# Altium integrated library TI Data Converters Analog to Digital Converter.IntLib: 2197 symbols (part 96 of 168)
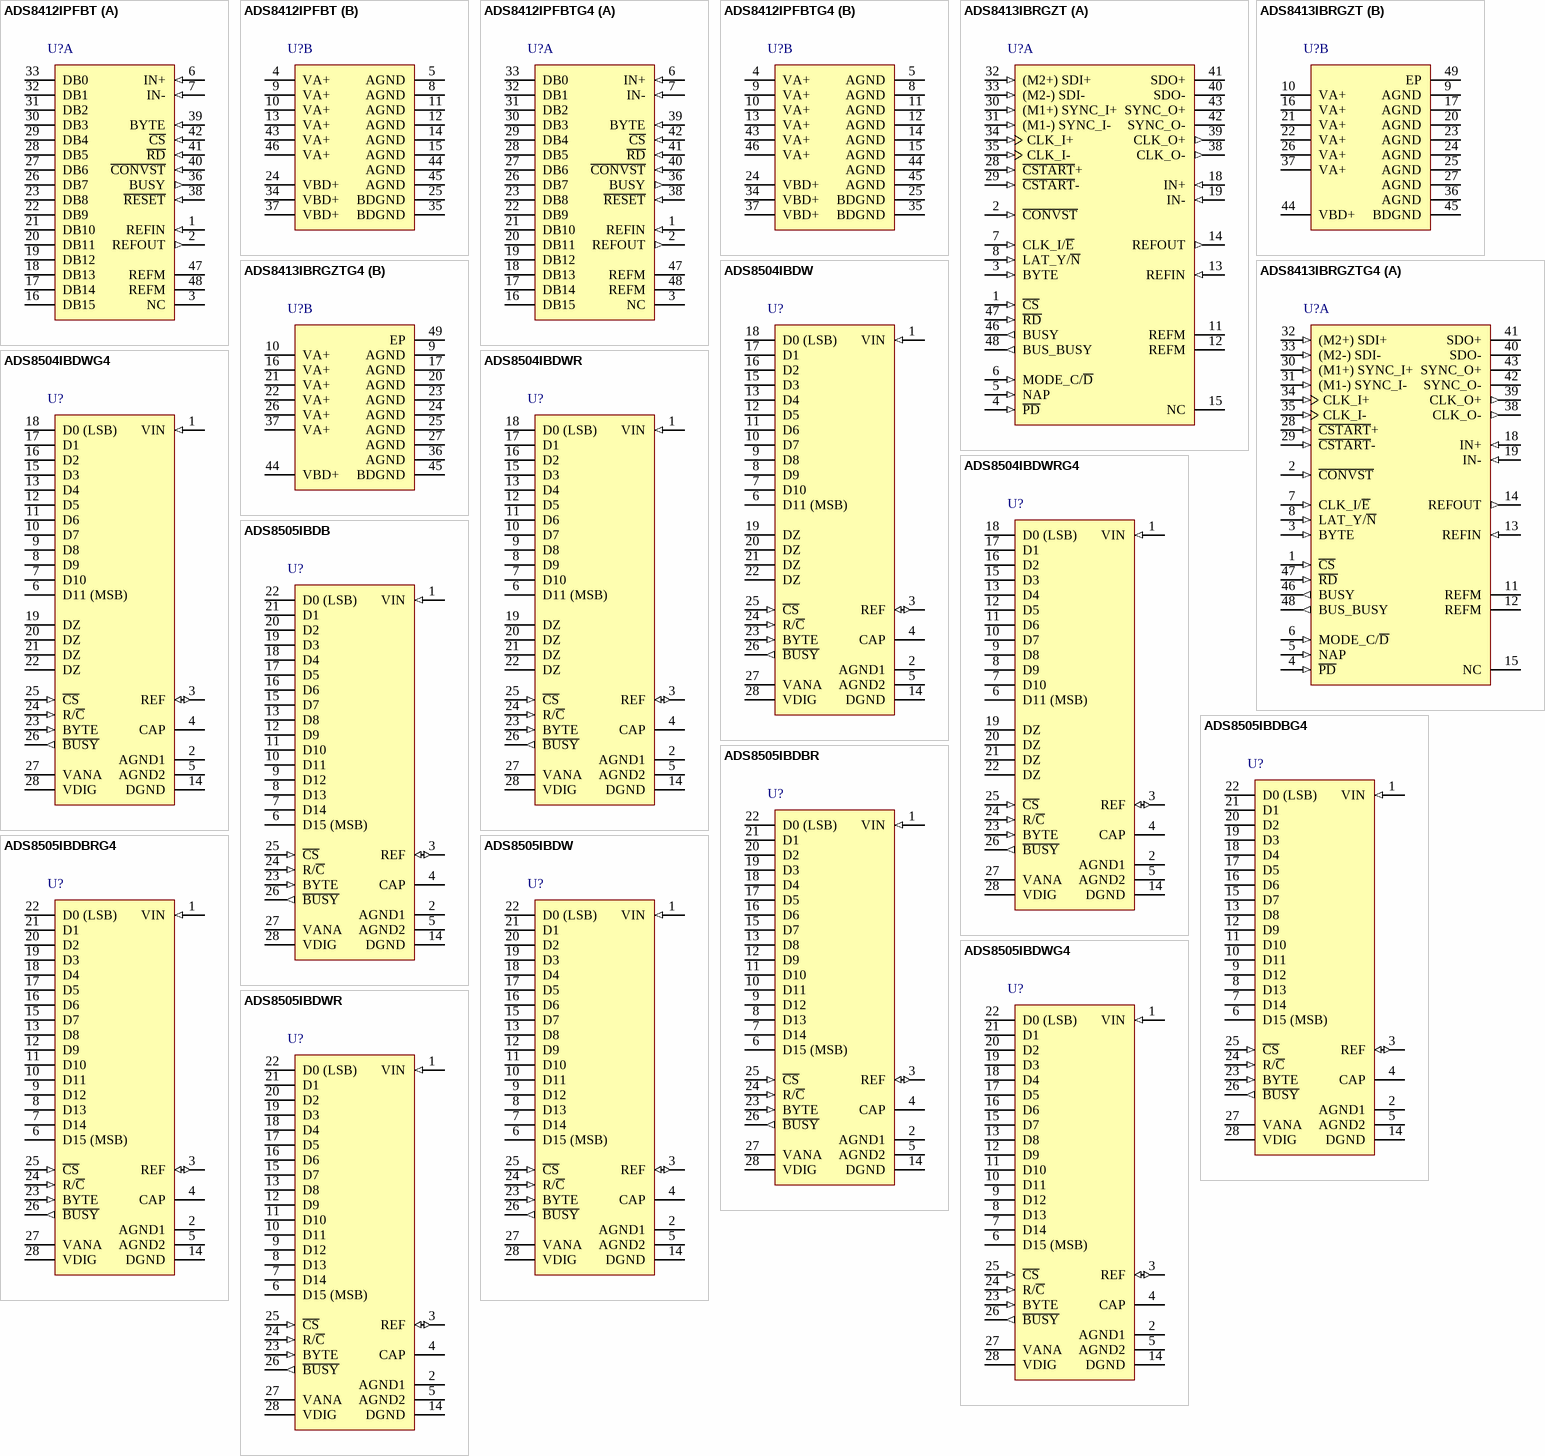
[diagram p221: symbols ADS8412IPFBT to ADS8505IBDWR]

## ADS8413IBRGZTG4
designator U?
16-Bit, Unipolar Differential Input, 2 MSPS Sampling Rate, 4.75 to 5.25 V ADC with LVDS Serial Interface, -40 to 85 degC, 48-pin QFN (RGZ48), Green (RoHS & no Sb/Br); Manufacturer: Texas Instruments; PartNumber: ADS8413IBRGZTG4; # Input Channels: 1; Analog Voltage AV/DD(Max)(V): 5.25; Analog Voltage AV/DD(Min)(V): 4.75; Architecture: SAR; Digital Supply(Min)(V): 2.7; INL(Max)(+/-LSB): 2; Interface: Parallel LVDS; Resolution(Bits): 16; Sample Rate (max)(SPS): 2M; SFDR(dB): 113; SINAD(dB): 92; SubFamily: Precision ADC (<=10MSPS); DatasheetVersion: SLAS490; PackageVersion: 4204101/F, 06/2011; PackageReference: RGZ48-5150X5150TP; PackageDescription: 48-Pin Plastic Flat Pack, Body 7 x 7 mm, Pitch 0.5 mm; Supplier 1: Digi-Key; Supplier Part Number 1: ADS7816U-ND; Supplier 2: Mouser; Supplier Part Number 2: 595-ADS7816U; Digital Supply(Max)(V): 5.25; Eco-Plan: Green (RoHS & no Sb/Br); SNR(dB): 92; Mounting Technology: Surface Mount; Code_JEDEC: MO-220; ComponentLink1Description: Manufacturer URL; ComponentLink1URL: http://www.ti.com/; ComponentLink2Description: Datasheet; ComponentLink2URL: http://www.ti.com/general/docs/lit/getliterature.tsp?genericPartNumber=ADS8413&fileType=pdf; ComponentLink3Description: Package Specification; ComponentLink3URL: http://www.ti.com/lit/ml/mpqf123e/mpqf123e.pdf
footprint TI-RGZ48-5150X5150TP_V (QFN, 48-Leads, Body 7x7mm, Pitch 0.5mm, Thermal Pad 5.15x5.15mm, TI Recommended)
part A pins: 1 ~{CS} (in) "Chip select, active low signal. All of the LVDS o/p except CLK_O are 3-state if this pin is high.", 2 ~{CONVST} (in) "CMOS equivalent of C\S\T\A\R\T\ input. So functionality is the same as the C\S\T\A\R\T\ input. Set C\O\N\V\S\T\ = 0 when the C\S\T\A\R\T\ input is used.", 3 BYTE (in) "Controls the data frame duration. The frame duration is 16 CLKs if BYTE = 0 or 8 CLKs if BYTE = 1.", 4 ~{PD} (in) "Active low input, acts as device power down.", 5 NAP (in) "Selects nap mode while high. Device enters nap state at conversion end and remains so until next acquisition phase begins.", 6 MODE_C/~{D} (in) "Selects cascade (MODE_C/D = 1) or daisy chain mode (MODE_C/D = 0).", 7 CLK_I/~{E} (in) "Selects the source of the I/O clock. CLK_I/E\= 1 selects internally generated clock with 200-MHz typ frequency. CLK_I/E\ = 0 selects CLK_I as the I/O clock.", 8 LAT_Y/~{N} (in) "Controls the data read with latency (LAT_Y/N\= 1) or without latency ((LAT_Y/N\ = 0). It is essential to set LAT_Y/N\= 0 for the first device in daisy chain or cascade.", 11 REFM (power) "Reference ground. Connect to analog ground plane.", 12 REFM (power) "Reference ground. Connect to analog ground plane.", 13 REFIN (in) "Reference (positive) input. Decouple with REFM pin using 0.1 uF bypass capacitor and 1 uF storage capacitor.", 14 REFOUT (out) "Internal reference output. Short to REFIN pin when internal reference is used. Do not connect to REFIN pin when external reference is used. Always decouple with AGND using 0.1 uF bypass capacitor.", 15 NC "No connection pins", 18 IN+ (in) "Noninverting analog input channel", 19 IN- (in) "Inverting analog input channel", 28 ~{CSTART}+ (in) "Device sample and convert control input. Device enters sample phase with rising edge of C\S\T\A\R\T\ and conversion phase starts with falling edge of C\S\T\A\R\T\ (provided other conditions are satisfied). Set C\S\T\A\R\T\ = (See Datasheet)", 29 ~{CSTART}- (in) "Device sample and convert control input. Device enters sample phase with rising edge of C\S\T\A\R\T\ and conversion phase starts with falling edge of C\S\T\A\R\T\ (provided other conditions are satisfied). Set C\S\T\A\R\T\ = (See Datasheet)", 30 (M1+) SYNC_I+ (in), 31 (M1-) SYNC_I- (in), 32 (M2+) SDI+ (in), 33 (M2-) SDI- (in), 34 CLK_I+ (in) "Serial external clock input. Set CLK_I/E\(pin 7) = 0 to select external clock source.", 35 CLK_I- (in) "Serial external clock input. Set CLK_I/E\(pin 7) = 0 to select external clock source.", 38 CLK_O- (out) "Serial clock out. Data is latched out on the rising edge of CLK_O and can be captured on the next falling edge.", 39 CLK_O+ (out) "Serial clock out. Data is latched out on the rising edge of CLK_O and can be captured on the next falling edge.", 40 SDO- (hiz) "Serial data out. Data is latched out on the rising edge of CLK_O with MSB first format.", 41 SDO+ (hiz) "Serial data out. Data is latched out on the rising edge of CLK_O with MSB first format.", 42 SYNC_O- (hiz) "Synchronizes the data frame.", 43 SYNC_O+ (hiz) "Synchronizes the data frame.", 46 BUSY (out) "Active high signal, indicates a conversion is in progress.", 47 ~{RD} (in) "Data read request to the device, also acts as a hand shake signal for daisy chain and cascade operation.", 48 BUS_BUSY (out) "Status output. Indicates that the bus is being used by the device. Connect to RD of the next device for daisy chain or cascade operation."
part B pins: 9 AGND (power) "Analog ground pins. Short to the analog ground plane below the device.", 10 VA+ (power) "Analog power supply and LVDS input buffer power supply.", 16 VA+ (power) "Analog power supply and LVDS input buffer power supply.", 17 AGND (power) "Analog ground pins. Short to the analog ground plane below the device.", 20 AGND (power) "Analog ground pins. Short to the analog ground plane below the device.", 21 VA+ (power) "Analog power supply and LVDS input buffer power supply.", 22 VA+ (power) "Analog power supply and LVDS input buffer power supply.", 23 AGND (power) "Analog ground pins. Short to the analog ground plane below the device.", 24 AGND (power) "Analog ground pins. Short to the analog ground plane below the device.", 25 AGND (power) "Analog ground pins. Short to the analog ground plane below the device.", 26 VA+ (power) "Analog power supply and LVDS input buffer power supply.", 27 AGND (power) "Analog ground pins. Short to the analog ground plane below the device.", 36 AGND (power) "Analog ground pins. Short to the analog ground plane below the device.", 37 VA+ (power) "Analog power supply and LVDS input buffer power supply.", 44 VBD+ (power) "Digital power supply for all CMOS digital inputs and CMOS, LVDS outputs.", 45 BDGND (power) "Digital ground for all digital inputs and outputs. Short to the analog ground plane below the device.", 49 EP

## ADS8504IBDW
designator U?
12-Bit 250 kHz CMOS ADC with Parallel Interface 2.5 V Internal Reference, -40 to 85 degC, 28-pin SOIC (DW28), Green (RoHS & no Sb/Br); Manufacturer: Texas Instruments; PartNumber: ADS8504IBDW; # Input Channels: 1; Analog Voltage AV/DD(Max)(V): 5.25; Analog Voltage AV/DD(Min)(V): 4.75; Architecture: SAR; INL(Max)(+/-LSB): 0.45; Interface: Parallel CMOS; Resolution(Bits): 12; Sample Rate (max)(SPS): 250k; SFDR(dB): 94; SINAD(dB): 73; SubFamily: Precision ADC (<=10MSPS); DatasheetVersion: SLAS434A; PackageVersion: 4040000-6/G, 01/2011; PackageReference: DW28; PackageDescription: 28-Pin Plastic Small Outline, Body 17.90 x 7.50 mm, Pitch 1.27 mm; Supplier 1: Digi-Key; Supplier Part Number 1: ADS7816U/2K5-ND; Supplier 2: Newark; Supplier Part Number 2: 74C7112; Supplier 3: Mouser; Supplier Part Number 3: 595-ADS7816U/2K5; Digital Supply(Max)(V): 5.25; Digital Supply(Min)(V): 4.75; Eco-Plan: Green (RoHS & no Sb/Br); SNR(dB): 73; Mounting Technology: Surface Mount; Code_JEDEC: MS-013; ComponentLink1Description: Manufacturer URL; ComponentLink1URL: http://www.ti.com/; ComponentLink2Description: Datasheet; ComponentLink2URL: http://www.ti.com/general/docs/lit/getliterature.tsp?genericPartNumber=ADS8504&fileType=pdf; ComponentLink3Description: Package Specification; ComponentLink3URL: http://www.ti.com/lit/ml/mpds175a/mpds175a.pdf
footprint TI-DW28_N (SOIC, 28-Leads, Body 17.9x7.5mm, Pitch 1.27mm, IPC Medium Density)
footprint TI-DW28_L (SOIC, 28-Leads, Body 17.9x7.5mm, Pitch 1.27mm, IPC High Density)
footprint TI-DW28_M (SOIC, 28-Leads, Body 17.9x7.5mm, Pitch 1.27mm, IPC Low Density)
pins: 1 VIN (in) "Analog input.", 2 AGND1 (power) "Analog ground. Used internally as ground reference point.", 3 REF (io) "Reference input/output. 2.2-uF tantalum capacitor to ground.", 4 CAP "Reference buffer capacitor. 2.2-uF tantalum capacitor to ground.", 5 AGND2 (power) "Analog ground.", 6 D11 (MSB) (hiz) "Data bit 11. Most significant bit (MSB) of conversion results. Hi-Z state when C\S\ is high, or when R/C\ is low.", 7 D10 (hiz) "Data bit 10. Hi-Z state when C\S\ is high, or when R/C\ is low.", 8 D9 (hiz) "Data bit 9. Hi-Z state when C\S\ is high, or when R/C\ is low.", 9 D8 (hiz) "Data bit 8. Hi-Z state when C\S\ is high, or when R/C\ is low.", 10 D7 (hiz) "Data bit 7. Hi-Z state when C\S\ is high, or when R/C\ is low.", 11 D6 (hiz) "Data bit 6. Hi-Z state when C\S\ is high, or when R/C\ is low.", 12 D5 (hiz) "Data bit 5. Hi-Z state when C\S\ is high, or when R/C\ is low.", 13 D4 (hiz) "Data bit 4. Hi-Z state when C\S\ is high, or when R/C\ is low.", 14 DGND (power) "Digital ground.", 15 D3 (hiz) "Data bit 3. Hi-Z state when C\S\ is high, or when R/C\ is low.", 16 D2 (hiz) "Data bit 2. Hi-Z state when C\S\ is high, or when R/C\ is low.", 17 D1 (hiz) "Data bit 1. Hi-Z state when C\S\ is high, or when R/C\ is low.", 18 D0 (LSB) (hiz) "Data bit 0. Least significant bit (LSB) of conversion results. Hi-Z state when C\S\ is high, or when R/C\ is low.", 19 DZ (hiz) "Low when C\S\ low, R/C\ high. Hi-Z state when C\S\ is high, or when R/C\ is low.", 20 DZ (hiz) "Low when C\S\ low, R/C\ high. Hi-Z state when C\S\ is high, or when R/C\ is low.", 21 DZ (hiz) "Low when C\S\ low, R/C\ high. Hi-Z state when C\S\ is high, or when R/C\ is low.", 22 DZ (hiz) "Low when C\S\ low, R/C\ high. Hi-Z state when C\S\ is high, or when R/C\ is low.", 23 BYTE (in) "Selects 8 most significant bits (low) or 8 least significant bits (high).", 24 R/~{C} (in) "With C\S\ low and B\U\S\Y\ high, a falling edge on R/C\ initiates a new conversion. With C\S\ low, a rising edge on R/C\ enables the parallel output.", 25 ~{CS} (in) "Internally ORed with R/C\. If R/C\ low, a falling edge on C\S\ initiates a new conversion.", 26 ~{BUSY} (out) "At the start of a conversion, B\U\S\Y\ goes low and stays low until the conversion is completed and the digital outputs have been updated.", 27 VANA (power) "Analog supply input. Nominally +5 V. Decouple to ground with 0.1-uF ceramic and 10-uF tantalum capacitors.", 28 VDIG (power) "Digital supply input. Nominally +5 V. Connect directly to pin 27. Must be <= VANA."

## ADS8504IBDWG4
designator U?
12-Bit 250 kHz CMOS ADC with Parallel Interface 2.5 V Internal Reference, -40 to 85 degC, 28-pin SOIC (DW28), Green (RoHS & no Sb/Br); Manufacturer: Texas Instruments; PartNumber: ADS8504IBDWG4; # Input Channels: 1; Analog Voltage AV/DD(Max)(V): 5.25; Analog Voltage AV/DD(Min)(V): 4.75; Architecture: SAR; INL(Max)(+/-LSB): 0.45; Interface: Parallel CMOS; Resolution(Bits): 12; Sample Rate (max)(SPS): 250k; SFDR(dB): 94; SINAD(dB): 73; SubFamily: Precision ADC (<=10MSPS); DatasheetVersion: SLAS434A; PackageVersion: 4040000-6/G, 01/2011; PackageReference: DW28; PackageDescription: 28-Pin Plastic Small Outline, Body 17.90 x 7.50 mm, Pitch 1.27 mm; Supplier 1: Digi-Key; Supplier Part Number 1: ADS7816U/2K5G4-ND; Supplier 2: Mouser; Supplier Part Number 2: 595-ADS7816U/2K5G4; Digital Supply(Max)(V): 5.25; Digital Supply(Min)(V): 4.75; Eco-Plan: Green (RoHS & no Sb/Br); SNR(dB): 73; Mounting Technology: Surface Mount; Code_JEDEC: MS-013; ComponentLink1Description: Manufacturer URL; ComponentLink1URL: http://www.ti.com/; ComponentLink2Description: Datasheet; ComponentLink2URL: http://www.ti.com/general/docs/lit/getliterature.tsp?genericPartNumber=ADS8504&fileType=pdf; ComponentLink3Description: Package Specification; ComponentLink3URL: http://www.ti.com/lit/ml/mpds175a/mpds175a.pdf
footprint TI-DW28_N (SOIC, 28-Leads, Body 17.9x7.5mm, Pitch 1.27mm, IPC Medium Density)
footprint TI-DW28_L (SOIC, 28-Leads, Body 17.9x7.5mm, Pitch 1.27mm, IPC High Density)
footprint TI-DW28_M (SOIC, 28-Leads, Body 17.9x7.5mm, Pitch 1.27mm, IPC Low Density)
pins: 1 VIN (in) "Analog input.", 2 AGND1 (power) "Analog ground. Used internally as ground reference point.", 3 REF (io) "Reference input/output. 2.2-uF tantalum capacitor to ground.", 4 CAP "Reference buffer capacitor. 2.2-uF tantalum capacitor to ground.", 5 AGND2 (power) "Analog ground.", 6 D11 (MSB) (hiz) "Data bit 11. Most significant bit (MSB) of conversion results. Hi-Z state when C\S\ is high, or when R/C\ is low.", 7 D10 (hiz) "Data bit 10. Hi-Z state when C\S\ is high, or when R/C\ is low.", 8 D9 (hiz) "Data bit 9. Hi-Z state when C\S\ is high, or when R/C\ is low.", 9 D8 (hiz) "Data bit 8. Hi-Z state when C\S\ is high, or when R/C\ is low.", 10 D7 (hiz) "Data bit 7. Hi-Z state when C\S\ is high, or when R/C\ is low.", 11 D6 (hiz) "Data bit 6. Hi-Z state when C\S\ is high, or when R/C\ is low.", 12 D5 (hiz) "Data bit 5. Hi-Z state when C\S\ is high, or when R/C\ is low.", 13 D4 (hiz) "Data bit 4. Hi-Z state when C\S\ is high, or when R/C\ is low.", 14 DGND (power) "Digital ground.", 15 D3 (hiz) "Data bit 3. Hi-Z state when C\S\ is high, or when R/C\ is low.", 16 D2 (hiz) "Data bit 2. Hi-Z state when C\S\ is high, or when R/C\ is low.", 17 D1 (hiz) "Data bit 1. Hi-Z state when C\S\ is high, or when R/C\ is low.", 18 D0 (LSB) (hiz) "Data bit 0. Least significant bit (LSB) of conversion results. Hi-Z state when C\S\ is high, or when R/C\ is low.", 19 DZ (hiz) "Low when C\S\ low, R/C\ high. Hi-Z state when C\S\ is high, or when R/C\ is low.", 20 DZ (hiz) "Low when C\S\ low, R/C\ high. Hi-Z state when C\S\ is high, or when R/C\ is low.", 21 DZ (hiz) "Low when C\S\ low, R/C\ high. Hi-Z state when C\S\ is high, or when R/C\ is low.", 22 DZ (hiz) "Low when C\S\ low, R/C\ high. Hi-Z state when C\S\ is high, or when R/C\ is low.", 23 BYTE (in) "Selects 8 most significant bits (low) or 8 least significant bits (high).", 24 R/~{C} (in) "With C\S\ low and B\U\S\Y\ high, a falling edge on R/C\ initiates a new conversion. With C\S\ low, a rising edge on R/C\ enables the parallel output.", 25 ~{CS} (in) "Internally ORed with R/C\. If R/C\ low, a falling edge on C\S\ initiates a new conversion.", 26 ~{BUSY} (out) "At the start of a conversion, B\U\S\Y\ goes low and stays low until the conversion is completed and the digital outputs have been updated.", 27 VANA (power) "Analog supply input. Nominally +5 V. Decouple to ground with 0.1-uF ceramic and 10-uF tantalum capacitors.", 28 VDIG (power) "Digital supply input. Nominally +5 V. Connect directly to pin 27. Must be <= VANA."

## ADS8504IBDWR
designator U?
12-Bit 250 kHz CMOS ADC with Parallel Interface 2.5 V Internal Reference, -40 to 85 degC, 28-pin SOIC (DW28), Green (RoHS & no Sb/Br); Manufacturer: Texas Instruments; PartNumber: ADS8504IBDWR; # Input Channels: 1; Analog Voltage AV/DD(Max)(V): 5.25; Analog Voltage AV/DD(Min)(V): 4.75; Architecture: SAR; INL(Max)(+/-LSB): 0.45; Interface: Parallel CMOS; Resolution(Bits): 12; Sample Rate (max)(SPS): 250k; SFDR(dB): 94; SINAD(dB): 73; SubFamily: Precision ADC (<=10MSPS); DatasheetVersion: SLAS434A; PackageVersion: 4040000-6/G, 01/2011; PackageReference: DW28; PackageDescription: 28-Pin Plastic Small Outline, Body 17.90 x 7.50 mm, Pitch 1.27 mm; Supplier 1: Digi-Key; Supplier Part Number 1: ADS7816UB-ND; Supplier 2: Newark; Supplier Part Number 2: 74K3633; Supplier 3: Mouser; Supplier Part Number 3: 595-ADS7816UB; Digital Supply(Max)(V): 5.25; Digital Supply(Min)(V): 4.75; Eco-Plan: Green (RoHS & no Sb/Br); SNR(dB): 73; Mounting Technology: Surface Mount; Code_JEDEC: MS-013; ComponentLink1Description: Manufacturer URL; ComponentLink1URL: http://www.ti.com/; ComponentLink2Description: Datasheet; ComponentLink2URL: http://www.ti.com/general/docs/lit/getliterature.tsp?genericPartNumber=ADS8504&fileType=pdf; ComponentLink3Description: Package Specification; ComponentLink3URL: http://www.ti.com/lit/ml/mpds175a/mpds175a.pdf
footprint TI-DW28_N (SOIC, 28-Leads, Body 17.9x7.5mm, Pitch 1.27mm, IPC Medium Density)
footprint TI-DW28_L (SOIC, 28-Leads, Body 17.9x7.5mm, Pitch 1.27mm, IPC High Density)
footprint TI-DW28_M (SOIC, 28-Leads, Body 17.9x7.5mm, Pitch 1.27mm, IPC Low Density)
pins: 1 VIN (in) "Analog input.", 2 AGND1 (power) "Analog ground. Used internally as ground reference point.", 3 REF (io) "Reference input/output. 2.2-uF tantalum capacitor to ground.", 4 CAP "Reference buffer capacitor. 2.2-uF tantalum capacitor to ground.", 5 AGND2 (power) "Analog ground.", 6 D11 (MSB) (hiz) "Data bit 11. Most significant bit (MSB) of conversion results. Hi-Z state when C\S\ is high, or when R/C\ is low.", 7 D10 (hiz) "Data bit 10. Hi-Z state when C\S\ is high, or when R/C\ is low.", 8 D9 (hiz) "Data bit 9. Hi-Z state when C\S\ is high, or when R/C\ is low.", 9 D8 (hiz) "Data bit 8. Hi-Z state when C\S\ is high, or when R/C\ is low.", 10 D7 (hiz) "Data bit 7. Hi-Z state when C\S\ is high, or when R/C\ is low.", 11 D6 (hiz) "Data bit 6. Hi-Z state when C\S\ is high, or when R/C\ is low.", 12 D5 (hiz) "Data bit 5. Hi-Z state when C\S\ is high, or when R/C\ is low.", 13 D4 (hiz) "Data bit 4. Hi-Z state when C\S\ is high, or when R/C\ is low.", 14 DGND (power) "Digital ground.", 15 D3 (hiz) "Data bit 3. Hi-Z state when C\S\ is high, or when R/C\ is low.", 16 D2 (hiz) "Data bit 2. Hi-Z state when C\S\ is high, or when R/C\ is low.", 17 D1 (hiz) "Data bit 1. Hi-Z state when C\S\ is high, or when R/C\ is low.", 18 D0 (LSB) (hiz) "Data bit 0. Least significant bit (LSB) of conversion results. Hi-Z state when C\S\ is high, or when R/C\ is low.", 19 DZ (hiz) "Low when C\S\ low, R/C\ high. Hi-Z state when C\S\ is high, or when R/C\ is low.", 20 DZ (hiz) "Low when C\S\ low, R/C\ high. Hi-Z state when C\S\ is high, or when R/C\ is low.", 21 DZ (hiz) "Low when C\S\ low, R/C\ high. Hi-Z state when C\S\ is high, or when R/C\ is low.", 22 DZ (hiz) "Low when C\S\ low, R/C\ high. Hi-Z state when C\S\ is high, or when R/C\ is low.", 23 BYTE (in) "Selects 8 most significant bits (low) or 8 least significant bits (high).", 24 R/~{C} (in) "With C\S\ low and B\U\S\Y\ high, a falling edge on R/C\ initiates a new conversion. With C\S\ low, a rising edge on R/C\ enables the parallel output.", 25 ~{CS} (in) "Internally ORed with R/C\. If R/C\ low, a falling edge on C\S\ initiates a new conversion.", 26 ~{BUSY} (out) "At the start of a conversion, B\U\S\Y\ goes low and stays low until the conversion is completed and the digital outputs have been updated.", 27 VANA (power) "Analog supply input. Nominally +5 V. Decouple to ground with 0.1-uF ceramic and 10-uF tantalum capacitors.", 28 VDIG (power) "Digital supply input. Nominally +5 V. Connect directly to pin 27. Must be <= VANA."

## ADS8504IBDWRG4
designator U?
12-Bit 250 kHz CMOS ADC with Parallel Interface 2.5 V Internal Reference, -40 to 85 degC, 28-pin SOIC (DW28), Green (RoHS & no Sb/Br); Manufacturer: Texas Instruments; PartNumber: ADS8504IBDWRG4; # Input Channels: 1; Analog Voltage AV/DD(Max)(V): 5.25; Analog Voltage AV/DD(Min)(V): 4.75; Architecture: SAR; INL(Max)(+/-LSB): 0.45; Interface: Parallel CMOS; Resolution(Bits): 12; Sample Rate (max)(SPS): 250k; SFDR(dB): 94; SINAD(dB): 73; SubFamily: Precision ADC (<=10MSPS); DatasheetVersion: SLAS434A; PackageVersion: 4040000-6/G, 01/2011; PackageReference: DW28; PackageDescription: 28-Pin Plastic Small Outline, Body 17.90 x 7.50 mm, Pitch 1.27 mm; Supplier 1: Digi-Key; Supplier Part Number 1: ADS7816UB/2K5-ND; Supplier 2: Mouser; Supplier Part Number 2: 595-ADS7816UB/2K5; Digital Supply(Max)(V): 5.25; Digital Supply(Min)(V): 4.75; Eco-Plan: Green (RoHS & no Sb/Br); SNR(dB): 73; Mounting Technology: Surface Mount; Code_JEDEC: MS-013; ComponentLink1Description: Manufacturer URL; ComponentLink1URL: http://www.ti.com/; ComponentLink2Description: Datasheet; ComponentLink2URL: http://www.ti.com/general/docs/lit/getliterature.tsp?genericPartNumber=ADS8504&fileType=pdf; ComponentLink3Description: Package Specification; ComponentLink3URL: http://www.ti.com/lit/ml/mpds175a/mpds175a.pdf
footprint TI-DW28_N (SOIC, 28-Leads, Body 17.9x7.5mm, Pitch 1.27mm, IPC Medium Density)
footprint TI-DW28_L (SOIC, 28-Leads, Body 17.9x7.5mm, Pitch 1.27mm, IPC High Density)
footprint TI-DW28_M (SOIC, 28-Leads, Body 17.9x7.5mm, Pitch 1.27mm, IPC Low Density)
pins: 1 VIN (in) "Analog input.", 2 AGND1 (power) "Analog ground. Used internally as ground reference point.", 3 REF (io) "Reference input/output. 2.2-uF tantalum capacitor to ground.", 4 CAP "Reference buffer capacitor. 2.2-uF tantalum capacitor to ground.", 5 AGND2 (power) "Analog ground.", 6 D11 (MSB) (hiz) "Data bit 11. Most significant bit (MSB) of conversion results. Hi-Z state when C\S\ is high, or when R/C\ is low.", 7 D10 (hiz) "Data bit 10. Hi-Z state when C\S\ is high, or when R/C\ is low.", 8 D9 (hiz) "Data bit 9. Hi-Z state when C\S\ is high, or when R/C\ is low.", 9 D8 (hiz) "Data bit 8. Hi-Z state when C\S\ is high, or when R/C\ is low.", 10 D7 (hiz) "Data bit 7. Hi-Z state when C\S\ is high, or when R/C\ is low.", 11 D6 (hiz) "Data bit 6. Hi-Z state when C\S\ is high, or when R/C\ is low.", 12 D5 (hiz) "Data bit 5. Hi-Z state when C\S\ is high, or when R/C\ is low.", 13 D4 (hiz) "Data bit 4. Hi-Z state when C\S\ is high, or when R/C\ is low.", 14 DGND (power) "Digital ground.", 15 D3 (hiz) "Data bit 3. Hi-Z state when C\S\ is high, or when R/C\ is low.", 16 D2 (hiz) "Data bit 2. Hi-Z state when C\S\ is high, or when R/C\ is low.", 17 D1 (hiz) "Data bit 1. Hi-Z state when C\S\ is high, or when R/C\ is low.", 18 D0 (LSB) (hiz) "Data bit 0. Least significant bit (LSB) of conversion results. Hi-Z state when C\S\ is high, or when R/C\ is low.", 19 DZ (hiz) "Low when C\S\ low, R/C\ high. Hi-Z state when C\S\ is high, or when R/C\ is low.", 20 DZ (hiz) "Low when C\S\ low, R/C\ high. Hi-Z state when C\S\ is high, or when R/C\ is low.", 21 DZ (hiz) "Low when C\S\ low, R/C\ high. Hi-Z state when C\S\ is high, or when R/C\ is low.", 22 DZ (hiz) "Low when C\S\ low, R/C\ high. Hi-Z state when C\S\ is high, or when R/C\ is low.", 23 BYTE (in) "Selects 8 most significant bits (low) or 8 least significant bits (high).", 24 R/~{C} (in) "With C\S\ low and B\U\S\Y\ high, a falling edge on R/C\ initiates a new conversion. With C\S\ low, a rising edge on R/C\ enables the parallel output.", 25 ~{CS} (in) "Internally ORed with R/C\. If R/C\ low, a falling edge on C\S\ initiates a new conversion.", 26 ~{BUSY} (out) "At the start of a conversion, B\U\S\Y\ goes low and stays low until the conversion is completed and the digital outputs have been updated.", 27 VANA (power) "Analog supply input. Nominally +5 V. Decouple to ground with 0.1-uF ceramic and 10-uF tantalum capacitors.", 28 VDIG (power) "Digital supply input. Nominally +5 V. Connect directly to pin 27. Must be <= VANA."

## ADS8505IBDB
designator U?
16-Bit 250 kHz CMOS ADC with Parallel Interface 2.5 V Internal Reference, -40 to 85 degC, 28-pin SOP (DB28), Green (RoHS & no Sb/Br); Manufacturer: Texas Instruments; PartNumber: ADS8505IBDB; # Input Channels: 1; Analog Voltage AV/DD(Max)(V): 5.25; Analog Voltage AV/DD(Min)(V): 4.75; Architecture: SAR; INL(Max)(+/-LSB): 1.5; Interface: Parallel CMOS; Resolution(Bits): 16; Sample Rate (max)(SPS): 250k; SFDR(dB): 105; SINAD(dB): 88; SubFamily: Precision ADC (<=10MSPS); DatasheetVersion: SLAS180B; PackageVersion: 4040065/E, 12/2001; PackageReference: DB28; PackageDescription: 28-Pin Plastic Small Outline, Body 10.2 X 5.3 mm, Pitch 0.65 mm; Supplier 1: Digi-Key; Supplier Part Number 1: ADS7816UB/2K5G4-ND; Supplier 2: Newark; Supplier Part Number 2: 28K2743; Supplier 3: Mouser; Supplier Part Number 3: 595-ADS7816UB/2K5G4; Digital Supply(Max)(V): 5.25; Digital Supply(Min)(V): 4.75; Eco-Plan: Green (RoHS & no Sb/Br); SNR(dB): 88; Mounting Technology: Surface Mount; Code_JEDEC: MO-150; ComponentLink1Description: Manufacturer URL; ComponentLink1URL: http://www.ti.com/; ComponentLink2Description: Datasheet; ComponentLink2URL: http://www.ti.com/general/docs/lit/getliterature.tsp?genericPartNumber=ADS8505&fileType=pdf; ComponentLink3Description: Package Specification; ComponentLink3URL: http://www.ti.com/lit/ml/msso002e/msso002e.pdf
footprint TI-DB28_N (SOP, 28-Leads, Body 10.2x5.3mm, Pitch 0.65mm, IPC Medium Density)
footprint TI-DB28_L (SOP, 28-Leads, Body 10.2x5.3mm, Pitch 0.65mm, IPC High Density)
footprint TI-DB28_M (SOP, 28-Leads, Body 10.2x5.3mm, Pitch 0.65mm, IPC Low Density)
pins: 1 VIN (in) "Analog input.", 2 AGND1 (power) "Analog ground. Used internally as ground reference point.", 3 REF (io) "Reference input/output. 2.2-uF Tantalum capacitor to ground.", 4 CAP "Reference buffer capacitor. 2.2-uF Tantalum capacitor to ground.", 5 AGND2 (power) "Analog ground.", 6 D15 (MSB) (hiz) "Data bit 15. Most significant bit (MSB) of conversion results. Hi-Z state when C\S\ is high, or when R/C\ is low.", 7 D14 (hiz) "Data bit 14. Hi-Z state when C\S\ is high, or when R/C\ is low.", 8 D13 (hiz) "Data bit 13. Hi-Z state when C\S\ is high, or when R/C\ is low.", 9 D12 (hiz) "Data bit 12. Hi-Z state when C\S\ is high, or when R/C\ is low.", 10 D11 (hiz) "Data bit 11. Hi-Z state when C\S\ is high, or when R/C\ is low.", 11 D10 (hiz) "Data bit 10. Hi-Z state when C\S\ is high, or when R/C\ is low.", 12 D9 (hiz) "Data bit 9. Hi-Z state when C\S\ is high, or when R/C\ is low.", 13 D8 (hiz) "Data bit 8. Hi-Z state when C\S\ is high, or when R/C\ is low.", 14 DGND (power) "Digital ground.", 15 D7 (hiz) "Data bit 7. Hi-Z state when C\S\ is high, or when R/C\ is low.", 16 D6 (hiz) "Data bit 6. Hi-Z state when C\S\ is high, or when R/C\ is low.", 17 D5 (hiz) "Data bit 5. Hi-Z state when C\S\ is high, or when R/C\ is low.", 18 D4 (hiz) "Data bit 4. Hi-Z state when C\S\ is high, or when R/C\ is low.", 19 D3 (hiz) "Data bit 3. Hi-Z state when C\S\ is high, or when R/C\ is low.", 20 D2 (hiz) "Data bit 2. Hi-Z state when C\S\ is high, or when R/C\ is low.", 21 D1 (hiz) "Data bit 1. Hi-Z state when C\S\ is high, or when R/C\ is low.", 22 D0 (LSB) (hiz) "Data bit 0. Least significant bit (LSB) of conversion results. Hi-Z state when C\S\ is high, or when R/C\ is low.", 23 BYTE (in) "Selects 8 most significant bits (low) or 8 least significant bits (high).", 24 R/~{C} (in) "With C\S\ low and B\U\S\Y\ high, a falling edge on R/C\ initiates a new conversion. With C\S\ low, a rising edge on R/C\ enables the parallel output.", 25 ~{CS} (in) "Internally ORed with R/C\. If R/C\ is low, a falling edge on C\S\ initiates a new conversion", 26 ~{BUSY} (out) "At the start of a conversion, B\U\S\Y\ goes low and stays low until the conversion is completed and the digital outputs have been updated.", 27 VANA (power) "Analog supply input. Nominally +5 V. Decouple to ground with 0.1-uF ceramic and 10-uF tantalum capacitors.", 28 VDIG (power) "Digital supply input. Nominally +5 V. Connect directly to pin 27. Must be =< VANA ."

## ADS8505IBDBG4
designator U?
16-Bit 250 kHz CMOS ADC with Parallel Interface 2.5 V Internal Reference, -40 to 85 degC, 28-pin SOP (DB28), Green (RoHS & no Sb/Br); Manufacturer: Texas Instruments; PartNumber: ADS8505IBDBG4; # Input Channels: 1; Analog Voltage AV/DD(Max)(V): 5.25; Analog Voltage AV/DD(Min)(V): 4.75; Architecture: SAR; INL(Max)(+/-LSB): 1.5; Interface: Parallel CMOS; Resolution(Bits): 16; Sample Rate (max)(SPS): 250k; SFDR(dB): 105; SINAD(dB): 88; SubFamily: Precision ADC (<=10MSPS); DatasheetVersion: SLAS180B; PackageVersion: 4040065/E, 12/2001; PackageReference: DB28; PackageDescription: 28-Pin Plastic Small Outline, Body 10.2 X 5.3 mm, Pitch 0.65 mm; Supplier 1: Digi-Key; Supplier Part Number 1: ADS7816UBG4-ND; Supplier 2: Farnell; Supplier Part Number 2: 1234819; Supplier 3: Newark; Supplier Part Number 3: 12M8277; Supplier 4: Mouser; Supplier Part Number 4: 595-ADS7816UBG4; Digital Supply(Max)(V): 5.25; Digital Supply(Min)(V): 4.75; Eco-Plan: Green (RoHS & no Sb/Br); SNR(dB): 88; Mounting Technology: Surface Mount; Code_JEDEC: MO-150; ComponentLink1Description: Manufacturer URL; ComponentLink1URL: http://www.ti.com/; ComponentLink2Description: Datasheet; ComponentLink2URL: http://www.ti.com/general/docs/lit/getliterature.tsp?genericPartNumber=ADS8505&fileType=pdf; ComponentLink3Description: Package Specification; ComponentLink3URL: http://www.ti.com/lit/ml/msso002e/msso002e.pdf
footprint TI-DB28_N (SOP, 28-Leads, Body 10.2x5.3mm, Pitch 0.65mm, IPC Medium Density)
footprint TI-DB28_L (SOP, 28-Leads, Body 10.2x5.3mm, Pitch 0.65mm, IPC High Density)
footprint TI-DB28_M (SOP, 28-Leads, Body 10.2x5.3mm, Pitch 0.65mm, IPC Low Density)
pins: 1 VIN (in) "Analog input.", 2 AGND1 (power) "Analog ground. Used internally as ground reference point.", 3 REF (io) "Reference input/output. 2.2-uF Tantalum capacitor to ground.", 4 CAP "Reference buffer capacitor. 2.2-uF Tantalum capacitor to ground.", 5 AGND2 (power) "Analog ground.", 6 D15 (MSB) (hiz) "Data bit 15. Most significant bit (MSB) of conversion results. Hi-Z state when C\S\ is high, or when R/C\ is low.", 7 D14 (hiz) "Data bit 14. Hi-Z state when C\S\ is high, or when R/C\ is low.", 8 D13 (hiz) "Data bit 13. Hi-Z state when C\S\ is high, or when R/C\ is low.", 9 D12 (hiz) "Data bit 12. Hi-Z state when C\S\ is high, or when R/C\ is low.", 10 D11 (hiz) "Data bit 11. Hi-Z state when C\S\ is high, or when R/C\ is low.", 11 D10 (hiz) "Data bit 10. Hi-Z state when C\S\ is high, or when R/C\ is low.", 12 D9 (hiz) "Data bit 9. Hi-Z state when C\S\ is high, or when R/C\ is low.", 13 D8 (hiz) "Data bit 8. Hi-Z state when C\S\ is high, or when R/C\ is low.", 14 DGND (power) "Digital ground.", 15 D7 (hiz) "Data bit 7. Hi-Z state when C\S\ is high, or when R/C\ is low.", 16 D6 (hiz) "Data bit 6. Hi-Z state when C\S\ is high, or when R/C\ is low.", 17 D5 (hiz) "Data bit 5. Hi-Z state when C\S\ is high, or when R/C\ is low.", 18 D4 (hiz) "Data bit 4. Hi-Z state when C\S\ is high, or when R/C\ is low.", 19 D3 (hiz) "Data bit 3. Hi-Z state when C\S\ is high, or when R/C\ is low.", 20 D2 (hiz) "Data bit 2. Hi-Z state when C\S\ is high, or when R/C\ is low.", 21 D1 (hiz) "Data bit 1. Hi-Z state when C\S\ is high, or when R/C\ is low.", 22 D0 (LSB) (hiz) "Data bit 0. Least significant bit (LSB) of conversion results. Hi-Z state when C\S\ is high, or when R/C\ is low.", 23 BYTE (in) "Selects 8 most significant bits (low) or 8 least significant bits (high).", 24 R/~{C} (in) "With C\S\ low and B\U\S\Y\ high, a falling edge on R/C\ initiates a new conversion. With C\S\ low, a rising edge on R/C\ enables the parallel output.", 25 ~{CS} (in) "Internally ORed with R/C\. If R/C\ is low, a falling edge on C\S\ initiates a new conversion", 26 ~{BUSY} (out) "At the start of a conversion, B\U\S\Y\ goes low and stays low until the conversion is completed and the digital outputs have been updated.", 27 VANA (power) "Analog supply input. Nominally +5 V. Decouple to ground with 0.1-uF ceramic and 10-uF tantalum capacitors.", 28 VDIG (power) "Digital supply input. Nominally +5 V. Connect directly to pin 27. Must be =< VANA ."

## ADS8505IBDBR
designator U?
16-Bit 250 kHz CMOS ADC with Parallel Interface 2.5 V Internal Reference, -40 to 85 degC, 28-pin SOP (DB28), Green (RoHS & no Sb/Br); Manufacturer: Texas Instruments; PartNumber: ADS8505IBDBR; # Input Channels: 1; Analog Voltage AV/DD(Max)(V): 5.25; Analog Voltage AV/DD(Min)(V): 4.75; Architecture: SAR; INL(Max)(+/-LSB): 1.5; Interface: Parallel CMOS; Resolution(Bits): 16; Sample Rate (max)(SPS): 250k; SFDR(dB): 105; SINAD(dB): 88; SubFamily: Precision ADC (<=10MSPS); DatasheetVersion: SLAS180B; PackageVersion: 4040065/E, 12/2001; PackageReference: DB28; PackageDescription: 28-Pin Plastic Small Outline, Body 10.2 X 5.3 mm, Pitch 0.65 mm; Supplier 1: Digi-Key; Supplier Part Number 1: ADS7816UC-ND; Supplier 2: Newark; Supplier Part Number 2: 74C7114; Supplier 3: Mouser; Supplier Part Number 3: 595-ADS7816UC; Digital Supply(Max)(V): 5.25; Digital Supply(Min)(V): 4.75; Eco-Plan: Green (RoHS & no Sb/Br); SNR(dB): 88; Mounting Technology: Surface Mount; Code_JEDEC: MO-150; ComponentLink1Description: Manufacturer URL; ComponentLink1URL: http://www.ti.com/; ComponentLink2Description: Datasheet; ComponentLink2URL: http://www.ti.com/general/docs/lit/getliterature.tsp?genericPartNumber=ADS8505&fileType=pdf; ComponentLink3Description: Package Specification; ComponentLink3URL: http://www.ti.com/lit/ml/msso002e/msso002e.pdf
footprint TI-DB28_N (SOP, 28-Leads, Body 10.2x5.3mm, Pitch 0.65mm, IPC Medium Density)
footprint TI-DB28_L (SOP, 28-Leads, Body 10.2x5.3mm, Pitch 0.65mm, IPC High Density)
footprint TI-DB28_M (SOP, 28-Leads, Body 10.2x5.3mm, Pitch 0.65mm, IPC Low Density)
pins: 1 VIN (in) "Analog input.", 2 AGND1 (power) "Analog ground. Used internally as ground reference point.", 3 REF (io) "Reference input/output. 2.2-uF Tantalum capacitor to ground.", 4 CAP "Reference buffer capacitor. 2.2-uF Tantalum capacitor to ground.", 5 AGND2 (power) "Analog ground.", 6 D15 (MSB) (hiz) "Data bit 15. Most significant bit (MSB) of conversion results. Hi-Z state when C\S\ is high, or when R/C\ is low.", 7 D14 (hiz) "Data bit 14. Hi-Z state when C\S\ is high, or when R/C\ is low.", 8 D13 (hiz) "Data bit 13. Hi-Z state when C\S\ is high, or when R/C\ is low.", 9 D12 (hiz) "Data bit 12. Hi-Z state when C\S\ is high, or when R/C\ is low.", 10 D11 (hiz) "Data bit 11. Hi-Z state when C\S\ is high, or when R/C\ is low.", 11 D10 (hiz) "Data bit 10. Hi-Z state when C\S\ is high, or when R/C\ is low.", 12 D9 (hiz) "Data bit 9. Hi-Z state when C\S\ is high, or when R/C\ is low.", 13 D8 (hiz) "Data bit 8. Hi-Z state when C\S\ is high, or when R/C\ is low.", 14 DGND (power) "Digital ground.", 15 D7 (hiz) "Data bit 7. Hi-Z state when C\S\ is high, or when R/C\ is low.", 16 D6 (hiz) "Data bit 6. Hi-Z state when C\S\ is high, or when R/C\ is low.", 17 D5 (hiz) "Data bit 5. Hi-Z state when C\S\ is high, or when R/C\ is low.", 18 D4 (hiz) "Data bit 4. Hi-Z state when C\S\ is high, or when R/C\ is low.", 19 D3 (hiz) "Data bit 3. Hi-Z state when C\S\ is high, or when R/C\ is low.", 20 D2 (hiz) "Data bit 2. Hi-Z state when C\S\ is high, or when R/C\ is low.", 21 D1 (hiz) "Data bit 1. Hi-Z state when C\S\ is high, or when R/C\ is low.", 22 D0 (LSB) (hiz) "Data bit 0. Least significant bit (LSB) of conversion results. Hi-Z state when C\S\ is high, or when R/C\ is low.", 23 BYTE (in) "Selects 8 most significant bits (low) or 8 least significant bits (high).", 24 R/~{C} (in) "With C\S\ low and B\U\S\Y\ high, a falling edge on R/C\ initiates a new conversion. With C\S\ low, a rising edge on R/C\ enables the parallel output.", 25 ~{CS} (in) "Internally ORed with R/C\. If R/C\ is low, a falling edge on C\S\ initiates a new conversion", 26 ~{BUSY} (out) "At the start of a conversion, B\U\S\Y\ goes low and stays low until the conversion is completed and the digital outputs have been updated.", 27 VANA (power) "Analog supply input. Nominally +5 V. Decouple to ground with 0.1-uF ceramic and 10-uF tantalum capacitors.", 28 VDIG (power) "Digital supply input. Nominally +5 V. Connect directly to pin 27. Must be =< VANA ."

## ADS8505IBDBRG4
designator U?
16-Bit 250 kHz CMOS ADC with Parallel Interface 2.5 V Internal Reference, -40 to 85 degC, 28-pin SOP (DB28), Green (RoHS & no Sb/Br); Manufacturer: Texas Instruments; PartNumber: ADS8505IBDBRG4; # Input Channels: 1; Analog Voltage AV/DD(Max)(V): 5.25; Analog Voltage AV/DD(Min)(V): 4.75; Architecture: SAR; INL(Max)(+/-LSB): 1.5; Interface: Parallel CMOS; Resolution(Bits): 16; Sample Rate (max)(SPS): 250k; SFDR(dB): 105; SINAD(dB): 88; SubFamily: Precision ADC (<=10MSPS); DatasheetVersion: SLAS180B; PackageVersion: 4040065/E, 12/2001; PackageReference: DB28; PackageDescription: 28-Pin Plastic Small Outline, Body 10.2 X 5.3 mm, Pitch 0.65 mm; Supplier 1: Digi-Key; Supplier Part Number 1: ADS7816UC/2K5-ND; Supplier 2: Mouser; Supplier Part Number 2: 595-ADS7816UC/2K5; Digital Supply(Max)(V): 5.25; Digital Supply(Min)(V): 4.75; Eco-Plan: Green (RoHS & no Sb/Br); SNR(dB): 88; Mounting Technology: Surface Mount; Code_JEDEC: MO-150; ComponentLink1Description: Manufacturer URL; ComponentLink1URL: http://www.ti.com/; ComponentLink2Description: Datasheet; ComponentLink2URL: http://www.ti.com/general/docs/lit/getliterature.tsp?genericPartNumber=ADS8505&fileType=pdf; ComponentLink3Description: Package Specification; ComponentLink3URL: http://www.ti.com/lit/ml/msso002e/msso002e.pdf
footprint TI-DB28_N (SOP, 28-Leads, Body 10.2x5.3mm, Pitch 0.65mm, IPC Medium Density)
footprint TI-DB28_L (SOP, 28-Leads, Body 10.2x5.3mm, Pitch 0.65mm, IPC High Density)
footprint TI-DB28_M (SOP, 28-Leads, Body 10.2x5.3mm, Pitch 0.65mm, IPC Low Density)
pins: 1 VIN (in) "Analog input.", 2 AGND1 (power) "Analog ground. Used internally as ground reference point.", 3 REF (io) "Reference input/output. 2.2-uF Tantalum capacitor to ground.", 4 CAP "Reference buffer capacitor. 2.2-uF Tantalum capacitor to ground.", 5 AGND2 (power) "Analog ground.", 6 D15 (MSB) (hiz) "Data bit 15. Most significant bit (MSB) of conversion results. Hi-Z state when C\S\ is high, or when R/C\ is low.", 7 D14 (hiz) "Data bit 14. Hi-Z state when C\S\ is high, or when R/C\ is low.", 8 D13 (hiz) "Data bit 13. Hi-Z state when C\S\ is high, or when R/C\ is low.", 9 D12 (hiz) "Data bit 12. Hi-Z state when C\S\ is high, or when R/C\ is low.", 10 D11 (hiz) "Data bit 11. Hi-Z state when C\S\ is high, or when R/C\ is low.", 11 D10 (hiz) "Data bit 10. Hi-Z state when C\S\ is high, or when R/C\ is low.", 12 D9 (hiz) "Data bit 9. Hi-Z state when C\S\ is high, or when R/C\ is low.", 13 D8 (hiz) "Data bit 8. Hi-Z state when C\S\ is high, or when R/C\ is low.", 14 DGND (power) "Digital ground.", 15 D7 (hiz) "Data bit 7. Hi-Z state when C\S\ is high, or when R/C\ is low.", 16 D6 (hiz) "Data bit 6. Hi-Z state when C\S\ is high, or when R/C\ is low.", 17 D5 (hiz) "Data bit 5. Hi-Z state when C\S\ is high, or when R/C\ is low.", 18 D4 (hiz) "Data bit 4. Hi-Z state when C\S\ is high, or when R/C\ is low.", 19 D3 (hiz) "Data bit 3. Hi-Z state when C\S\ is high, or when R/C\ is low.", 20 D2 (hiz) "Data bit 2. Hi-Z state when C\S\ is high, or when R/C\ is low.", 21 D1 (hiz) "Data bit 1. Hi-Z state when C\S\ is high, or when R/C\ is low.", 22 D0 (LSB) (hiz) "Data bit 0. Least significant bit (LSB) of conversion results. Hi-Z state when C\S\ is high, or when R/C\ is low.", 23 BYTE (in) "Selects 8 most significant bits (low) or 8 least significant bits (high).", 24 R/~{C} (in) "With C\S\ low and B\U\S\Y\ high, a falling edge on R/C\ initiates a new conversion. With C\S\ low, a rising edge on R/C\ enables the parallel output.", 25 ~{CS} (in) "Internally ORed with R/C\. If R/C\ is low, a falling edge on C\S\ initiates a new conversion", 26 ~{BUSY} (out) "At the start of a conversion, B\U\S\Y\ goes low and stays low until the conversion is completed and the digital outputs have been updated.", 27 VANA (power) "Analog supply input. Nominally +5 V. Decouple to ground with 0.1-uF ceramic and 10-uF tantalum capacitors.", 28 VDIG (power) "Digital supply input. Nominally +5 V. Connect directly to pin 27. Must be =< VANA ."

## ADS8505IBDW
designator U?
16-Bit 250 kHz CMOS ADC with Parallel Interface 2.5 V Internal Reference, -40 to 85 degC, 28-pin SOIC (DW28), Green (RoHS & no Sb/Br); Manufacturer: Texas Instruments; PartNumber: ADS8505IBDW; # Input Channels: 1; Analog Voltage AV/DD(Max)(V): 5.25; Analog Voltage AV/DD(Min)(V): 4.75; Architecture: SAR; INL(Max)(+/-LSB): 1.5; Interface: Parallel CMOS; Resolution(Bits): 16; Sample Rate (max)(SPS): 250k; SFDR(dB): 105; SINAD(dB): 88; SubFamily: Precision ADC (<=10MSPS); DatasheetVersion: SLAS180B; PackageVersion: 4040000-6/G, 01/2011; PackageReference: DW28; PackageDescription: 28-Pin Plastic Small Outline, Body 17.90 x 7.50 mm, Pitch 1.27 mm; Supplier 1: Digi-Key; Supplier Part Number 1: ADS7816UC/2K5G4-ND; Supplier 2: Mouser; Supplier Part Number 2: 595-ADS7816UC/2K5G4; Digital Supply(Max)(V): 5.25; Digital Supply(Min)(V): 4.75; Eco-Plan: Green (RoHS & no Sb/Br); SNR(dB): 88; Mounting Technology: Surface Mount; Code_JEDEC: MS-013; ComponentLink1Description: Manufacturer URL; ComponentLink1URL: http://www.ti.com/; ComponentLink2Description: Datasheet; ComponentLink2URL: http://www.ti.com/general/docs/lit/getliterature.tsp?genericPartNumber=ADS8505&fileType=pdf; ComponentLink3Description: Package Specification; ComponentLink3URL: http://www.ti.com/lit/ml/mpds175a/mpds175a.pdf
footprint TI-DW28_N (SOIC, 28-Leads, Body 17.9x7.5mm, Pitch 1.27mm, IPC Medium Density)
footprint TI-DW28_L (SOIC, 28-Leads, Body 17.9x7.5mm, Pitch 1.27mm, IPC High Density)
footprint TI-DW28_M (SOIC, 28-Leads, Body 17.9x7.5mm, Pitch 1.27mm, IPC Low Density)
pins: 1 VIN (in) "Analog input.", 2 AGND1 (power) "Analog ground. Used internally as ground reference point.", 3 REF (io) "Reference input/output. 2.2-uF Tantalum capacitor to ground.", 4 CAP "Reference buffer capacitor. 2.2-uF Tantalum capacitor to ground.", 5 AGND2 (power) "Analog ground.", 6 D15 (MSB) (hiz) "Data bit 15. Most significant bit (MSB) of conversion results. Hi-Z state when C\S\ is high, or when R/C\ is low.", 7 D14 (hiz) "Data bit 14. Hi-Z state when C\S\ is high, or when R/C\ is low.", 8 D13 (hiz) "Data bit 13. Hi-Z state when C\S\ is high, or when R/C\ is low.", 9 D12 (hiz) "Data bit 12. Hi-Z state when C\S\ is high, or when R/C\ is low.", 10 D11 (hiz) "Data bit 11. Hi-Z state when C\S\ is high, or when R/C\ is low.", 11 D10 (hiz) "Data bit 10. Hi-Z state when C\S\ is high, or when R/C\ is low.", 12 D9 (hiz) "Data bit 9. Hi-Z state when C\S\ is high, or when R/C\ is low.", 13 D8 (hiz) "Data bit 8. Hi-Z state when C\S\ is high, or when R/C\ is low.", 14 DGND (power) "Digital ground.", 15 D7 (hiz) "Data bit 7. Hi-Z state when C\S\ is high, or when R/C\ is low.", 16 D6 (hiz) "Data bit 6. Hi-Z state when C\S\ is high, or when R/C\ is low.", 17 D5 (hiz) "Data bit 5. Hi-Z state when C\S\ is high, or when R/C\ is low.", 18 D4 (hiz) "Data bit 4. Hi-Z state when C\S\ is high, or when R/C\ is low.", 19 D3 (hiz) "Data bit 3. Hi-Z state when C\S\ is high, or when R/C\ is low.", 20 D2 (hiz) "Data bit 2. Hi-Z state when C\S\ is high, or when R/C\ is low.", 21 D1 (hiz) "Data bit 1. Hi-Z state when C\S\ is high, or when R/C\ is low.", 22 D0 (LSB) (hiz) "Data bit 0. Least significant bit (LSB) of conversion results. Hi-Z state when C\S\ is high, or when R/C\ is low.", 23 BYTE (in) "Selects 8 most significant bits (low) or 8 least significant bits (high).", 24 R/~{C} (in) "With C\S\ low and B\U\S\Y\ high, a falling edge on R/C\ initiates a new conversion. With C\S\ low, a rising edge on R/C\ enables the parallel output.", 25 ~{CS} (in) "Internally ORed with R/C\. If R/C\ is low, a falling edge on C\S\ initiates a new conversion", 26 ~{BUSY} (out) "At the start of a conversion, B\U\S\Y\ goes low and stays low until the conversion is completed and the digital outputs have been updated.", 27 VANA (power) "Analog supply input. Nominally +5 V. Decouple to ground with 0.1-uF ceramic and 10-uF tantalum capacitors.", 28 VDIG (power) "Digital supply input. Nominally +5 V. Connect directly to pin 27. Must be =< VANA ."

## ADS8505IBDWG4
designator U?
16-Bit 250 kHz CMOS ADC with Parallel Interface 2.5 V Internal Reference, -40 to 85 degC, 28-pin SOIC (DW28), Green (RoHS & no Sb/Br); Manufacturer: Texas Instruments; PartNumber: ADS8505IBDWG4; # Input Channels: 1; Analog Voltage AV/DD(Max)(V): 5.25; Analog Voltage AV/DD(Min)(V): 4.75; Architecture: SAR; INL(Max)(+/-LSB): 1.5; Interface: Parallel CMOS; Resolution(Bits): 16; Sample Rate (max)(SPS): 250k; SFDR(dB): 105; SINAD(dB): 88; SubFamily: Precision ADC (<=10MSPS); DatasheetVersion: SLAS180B; PackageVersion: 4040000-6/G, 01/2011; PackageReference: DW28; PackageDescription: 28-Pin Plastic Small Outline, Body 17.90 x 7.50 mm, Pitch 1.27 mm; Supplier 1: Digi-Key; Supplier Part Number 1: ADS7816UCG4-ND; Supplier 2: Mouser; Supplier Part Number 2: 595-ADS7816UCG4; Digital Supply(Max)(V): 5.25; Digital Supply(Min)(V): 4.75; Eco-Plan: Green (RoHS & no Sb/Br); SNR(dB): 88; Mounting Technology: Surface Mount; Code_JEDEC: MS-013; ComponentLink1Description: Manufacturer URL; ComponentLink1URL: http://www.ti.com/; ComponentLink2Description: Datasheet; ComponentLink2URL: http://www.ti.com/general/docs/lit/getliterature.tsp?genericPartNumber=ADS8505&fileType=pdf; ComponentLink3Description: Package Specification; ComponentLink3URL: http://www.ti.com/lit/ml/mpds175a/mpds175a.pdf
footprint TI-DW28_N (SOIC, 28-Leads, Body 17.9x7.5mm, Pitch 1.27mm, IPC Medium Density)
footprint TI-DW28_L (SOIC, 28-Leads, Body 17.9x7.5mm, Pitch 1.27mm, IPC High Density)
footprint TI-DW28_M (SOIC, 28-Leads, Body 17.9x7.5mm, Pitch 1.27mm, IPC Low Density)
pins: 1 VIN (in) "Analog input.", 2 AGND1 (power) "Analog ground. Used internally as ground reference point.", 3 REF (io) "Reference input/output. 2.2-uF Tantalum capacitor to ground.", 4 CAP "Reference buffer capacitor. 2.2-uF Tantalum capacitor to ground.", 5 AGND2 (power) "Analog ground.", 6 D15 (MSB) (hiz) "Data bit 15. Most significant bit (MSB) of conversion results. Hi-Z state when C\S\ is high, or when R/C\ is low.", 7 D14 (hiz) "Data bit 14. Hi-Z state when C\S\ is high, or when R/C\ is low.", 8 D13 (hiz) "Data bit 13. Hi-Z state when C\S\ is high, or when R/C\ is low.", 9 D12 (hiz) "Data bit 12. Hi-Z state when C\S\ is high, or when R/C\ is low.", 10 D11 (hiz) "Data bit 11. Hi-Z state when C\S\ is high, or when R/C\ is low.", 11 D10 (hiz) "Data bit 10. Hi-Z state when C\S\ is high, or when R/C\ is low.", 12 D9 (hiz) "Data bit 9. Hi-Z state when C\S\ is high, or when R/C\ is low.", 13 D8 (hiz) "Data bit 8. Hi-Z state when C\S\ is high, or when R/C\ is low.", 14 DGND (power) "Digital ground.", 15 D7 (hiz) "Data bit 7. Hi-Z state when C\S\ is high, or when R/C\ is low.", 16 D6 (hiz) "Data bit 6. Hi-Z state when C\S\ is high, or when R/C\ is low.", 17 D5 (hiz) "Data bit 5. Hi-Z state when C\S\ is high, or when R/C\ is low.", 18 D4 (hiz) "Data bit 4. Hi-Z state when C\S\ is high, or when R/C\ is low.", 19 D3 (hiz) "Data bit 3. Hi-Z state when C\S\ is high, or when R/C\ is low.", 20 D2 (hiz) "Data bit 2. Hi-Z state when C\S\ is high, or when R/C\ is low.", 21 D1 (hiz) "Data bit 1. Hi-Z state when C\S\ is high, or when R/C\ is low.", 22 D0 (LSB) (hiz) "Data bit 0. Least significant bit (LSB) of conversion results. Hi-Z state when C\S\ is high, or when R/C\ is low.", 23 BYTE (in) "Selects 8 most significant bits (low) or 8 least significant bits (high).", 24 R/~{C} (in) "With C\S\ low and B\U\S\Y\ high, a falling edge on R/C\ initiates a new conversion. With C\S\ low, a rising edge on R/C\ enables the parallel output.", 25 ~{CS} (in) "Internally ORed with R/C\. If R/C\ is low, a falling edge on C\S\ initiates a new conversion", 26 ~{BUSY} (out) "At the start of a conversion, B\U\S\Y\ goes low and stays low until the conversion is completed and the digital outputs have been updated.", 27 VANA (power) "Analog supply input. Nominally +5 V. Decouple to ground with 0.1-uF ceramic and 10-uF tantalum capacitors.", 28 VDIG (power) "Digital supply input. Nominally +5 V. Connect directly to pin 27. Must be =< VANA ."